# EAGLE library part 750343068 (library WE-OLTI)
WE-OLTI Offline Flyback Transformers Characteristics Nominal input voltage: 85–265 VAC (120–375 VDC) Small size Low leakage inductance Multiple-output options Operating temperature: −40 °C to +125 °C Isolation Voltage: 2 kVAC to 5 kVAC Options for fixed frequency or quasi-resonant mode operation Most products meet reinforced insulation Applications Industrial controls USB chargers Utility metering devices Process controls Factory automation Security systems Garage door opener auxiliary supplies Home appliances Especially designed for several ICs from Texas Instruments Details see: www.we-online.com/en/components/products/WE-OLTI Created by Ella 2025-02-06 2025 (C) Würth Elektronik
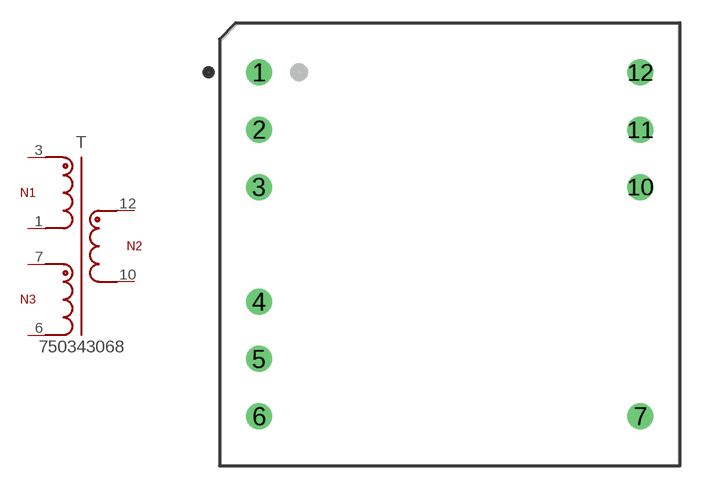
[diagram p5: symbol with the pads of WE-OLTI_PQ2625_L29.2W30.35H29.3; footprint WE-OLTI_PQ2625_L29.2W30.35H29.3]

Designator prefix T

## 750343068 (AUXILIARY_VOLTAGE_1: 18 V; CATEGORY: Transformers; DATASHEET: https://www.we-online.com/redexpert/spec/750343068?ae; HEIGHT: 29.3 mm; INDUCTANCE: 230 uH; INPUT_VOLTAGE: 60 - 283 V (AC); INSULATION_TEST_VOLTAGE: 3000 V (AC); LENGTH: 1.15 mm; MANUFACTURER: Würth Elektronik; MOUNT: THT; MPN: 750343068; OUTPUT_CURRENT_1: 2500 mA; OUTPUT_VOLTAGE_1: 24 V; SATURATION_CURRENT: 4.4 A; SIZE: PQ2625; SWITCHING-FREQUENCY: 65kHz; TURNS_RATIO: 3.88:1:0.83; VALUE: 230 uH; WIDTH: 30.35 mm)  [WE-OLTI_PQ2625_L29.2W30.35H29.3]
1  P2  pas
3  P1  pas
6  A2  pas
7  A1  pas
10  S2  pas
12  S1  pas

## Footprint WE-OLTI_PQ2625_L29.2W30.35H29.3 (pad centres in mm)
WE-OLTI Offline Flyback Transformers Size: PQ2625,THT,10pins LXWXH=29.2X30.35X29.3 Bobbin: 070-5649
drill 1.15: 1 -12.65,11.4; 2 -12.65,7.6; 3 -12.65,3.8; 4 -12.65,-3.8; 5 -12.65,-7.6; 6 -12.65,-11.4; 7 12.65,-11.4; 10 12.65,3.8; 11 12.65,7.6; 12 12.65,11.4